# Altium schematic symbol library MOTELIGHT_ED03R1_20200205.SCHLIB: 103 symbols (part 2 of 2)
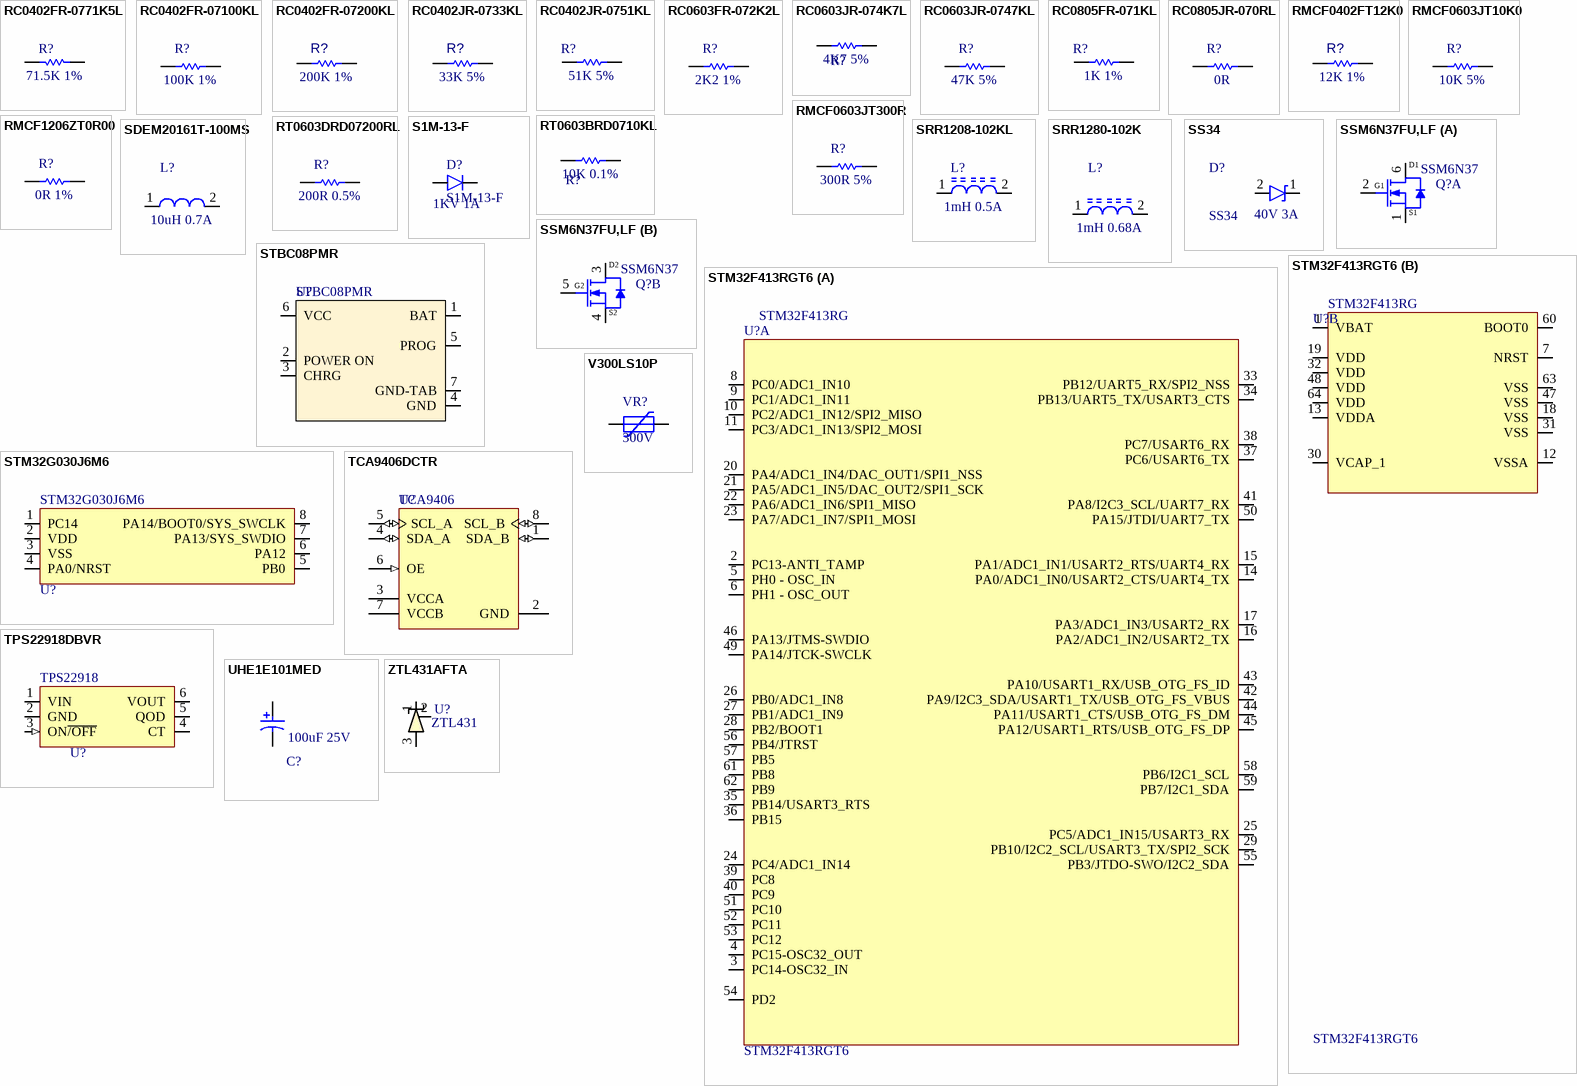
[diagram p3: symbols RC0402FR-0771K5L to ZTL431AFTA]

## RMCF0603JT10K0
designator R?  VALOR: 10K 5%  (hidden comment: RMCF0603JT10K0)
RES SMD 10K OHM 5% 1/16W 0603; Manufacturer: Stackpole Electronics; ORIGEM: MoteLight_Ed02; Supplier 1: Digi-Key; Manufacturer Part Number: RMCF0603JT10K0; Pricing 1: 1=0.1, 10=0.016, 100=0.0064, 1000=0.00289, 2500=0.0025 (USD); Case/Package: 0603; ComponentLink1URL: https://www.verical.com/server-webapp/html/getDatasheet?partID=364254; ComponentLink1Description: https://www.verical.com/server-webapp/html/getDatasheet?partID=364254; Supplier Part Number 1: RMCF0603JT10K0DKR-ND
footprint RES 0603 (RESISTOR 0603)
pins: 1, 2

## RMCF0603JT300R
designator R?  VALOR: 300R 5%  (hidden comment: RMCF0603JT300R)
RES SMD 300 OHM 5% 1/16W 0603; Manufacturer: Stackpole Electronics; ORIGEM: MoteLight_Ed03; Supplier 1: Future Electronics; Manufacturer Part Number: RMCF0603JT300R; Case/Package: 0603; Supplier Part Number 1: 3380441
footprint RES 0603 (RESISTOR 0603)
pins: 1, 2

## RMCF1206ZT0R00
designator R?  VALOR: 0R 1%  (hidden comment: RMCF1206ZT0R00)  (no BOM)
RES SMD 0 OHM 1% 1/16W 1206; Manufacturer: Stackpole Electronics; ORIGEM: MoteLight_Ed03; Supplier 1: Digi-Key; Case/Package: 1206; Manufacturer Part Number: RMCF1206ZT0R00
footprint RES 1206 (Footprint not found)
pins: 1, 2

## RT0603BRD0710KL
designator R?  VALOR: 10K 0.1%  (hidden comment: RT0603BRD0710KL)
RES SMD 10K OHM 0.1% 1/10W 0603; Manufacturer: Yageo; ORIGEM: MoteLight_Ed03; Supplier 1: Digi-Key; Manufacturer Part Number: RT0603BRD0710KL; Pricing 1: 1=0,38000, 10=0,32000, 100=0,12500, 1000=0,05233, 2500=0,04797 (USD); Case/Package: 0603; ComponentLink1Description: https://datasheet.ciiva.com/29721/pyu-rt-1-to-0-05-rohs-l-4-29721177.pdf?src-supplier=Digi-Key; Supplier Part Number 1: YAG1236CT-ND
footprint RES 0603
pins: 1, 2

## RT0603DRD07200RL
designator R?  VALOR: 200R 0.5%  (hidden comment: RT0603DRD07200RL)
RES SMD 200R 0.5% 1/10W  0603; Manufacturer: Yageo; ORIGEM: MoteLight_Ed02; Supplier 1: Digi-Key; Supplier Part Number 1: 311-200DCT-ND; Case/Package: 0603; Manufacturer Part Number: RT0603DRD07200RL; Pricing 1: 1=0,20000, 10=0,16800, 100=0,06570, 1000=0,02750, 2500=0,02521 (USD); ComponentLink1URL: http://www.yageo.com/documents/recent/PYu-RT_1-to-0.01_RoHS_L_9.pdf?src-supplier=Digi-Key; ComponentLink1Description: http://www.yageo.com/documents/recent/PYu-RT_1-to-0.01_RoHS_L_9.pdf?src-supplier=Digi-Key
footprint RES 0603 (RESISTOR 0603)
pins: 1, 2

## S1M-13-F
designator D?  VALOR: 1KV 1A
DIO GEN PURP 1KV 1A SMA; Manufacturer: Diodes; ORIGEM: MoteLight_Ed03; Supplier 1: Digi-Key; Manufacturer Part Number: S1M-13-F; Pricing 1: 1=0.24, 10=0.199, 100=0.1057, 500=0.06952, 1000=0.04728 (USD); Case/Package: SMA; ComponentLink1Description: http://www.jameco.com/Jameco/Products/ProdDS/1541642.pdf?src-supplier=Jameco; Supplier Part Number 1: S1M-FDICT-ND
footprint DIO DO-214AC (Footprint not found)
pins: 1 A, 2 K

## SDEM20161T-100MS
designator L?  VALOR: 10uH 0.7A  (hidden comment: SDEM20161T-100MS)
IND FIXED 10UH 700MA 1.01OHM SMD; Manufacturer: Cyntec; ORIGEM: MoteLight_Ed03; Supplier 1: Digi-Key; Manufacturer Part Number: SDEM20161T-100MS; Pricing 1: 1=0,26000, 10=0,23300, 100=0,16050, 500=0,13714, 1000=0,10505 (USD); Supplier Part Number 1: 2037-SDEM20161T-100MSCT-ND; Case/Package: SMD
footprint IND SDEM20161T (SDEM Series)
pins: 1, 2

## SRR1208-102KL
designator L?  VALOR: 1mH 0.5A  (hidden comment: SRR1208-102KL)
IND FIXED 1000uH 10% 0.5A SMT; Manufacturer: Bourns; ORIGEM: MoteLight_Ed03; Supplier 1: Digi-Key; Manufacturer Part Number: SRR1208-102KL; Pricing 1: 1=1,13000, 10=1,04700, 100=0,75670 (USD); Case/Package: SMD; ComponentLink1Description: https://datasheet.ciiva.com/22717/1483756-22717957.pdf?src-supplier=Element14; Supplier Part Number 1: SRR1208-102KLCT-ND
footprint IND SRR1280
pins: 1, 2

## SRR1280-102K
designator L?  VALOR: 1mH 0.68A  (hidden comment: SRR1280-102K)
IND FIXED 1MH 680MA 1.7 OHM SMD; Manufacturer: Bourns; ORIGEM: MoteLight_Ed03; Supplier 1: Digi-Key; Manufacturer Part Number: SRR1280-102K; Pricing 1: 1=1,25000, 10=1,15900, 100=0,83780 (USD); Case/Package: Nonstandard; ComponentLink1Description: https://datasheet.ciiva.com/48685/srr1280-48685541.pdf?src-supplier=Avnet; Supplier Part Number 1: SRR1280-102KCT-ND
footprint IND SRR1280
pins: 1, 2

## SS34
designator D?  VALOR: 40V 3A
DIO SCHOTTKY 40 V 3 A DO-214AB; Manufacturer: Taiwan Semiconductor; ORIGEM: MoteLight_Ed02; Supplier 1: Mouser; Manufacturer Part Number: SS34; Case/Package: SMC; ComponentLink1URL: https://datasheet.ciiva.com/16236/ss32-f11-16236749.pdf?src-supplier=Onlinecomponents.com; ComponentLink1Description: https://datasheet.ciiva.com/16236/ss32-f11-16236749.pdf?src-supplier=Onlinecomponents.com; Supplier Part Number 1: 821-SS34
footprint DIO DO214 AB (SMC)
pins: 1 K, 2 A

## SSM6N37FU,LF
designator Q?, comment VALOR: SSM6N37  (hidden comment: SSM6N37FU,LFA)
TRANS MOSFET 2 N-CHANNEL 20V 250MA SSM6N37; Manufacturer: Toshiba; ORIGEM: MoteLight_Ed03; Supplier 1: Digi-Key; Pricing 1: 1=0,38000, 10=0,28000, 100=0,15860, 500=0,10506, 1000=0,08055 (USD); ComponentLink1Description: https://toshiba.semicon-storage.com/info/docget.jsp?did=6227&prodName=SSM6N37FU&src-supplier=Digi-Key; Supplier Part Number 1: SSM6N37FULFCT-ND; Case/Package: SOT-363-6; Manufacturer Part Number: SSM6N37FU,LF
footprint IC SOT-363
part A pins: 1 S1, 2 G1, 6 D1
part B pins: 3 D1, 4 S1, 5 G1
part B text: D2; G2; S2

## STBC08PMR
designator U?
IC BATT CHRGR LI-ION 800MA DFN6; Manufacturer: STMicroelectronics; ORIGEM: MoteLight_Ed03; Supplier 1: Digi-Key; Pricing 1: 1=1,24000, 10=1,11200, 25=1,05560, 100=0,81050, 250=0,71628, 500=0,67856, 1000=0,52777 (USD); Case/Package: DFN; ComponentLink1Description: https://datasheet.ciiva.com/4873/cd00132950-113489-4873792.pdf?src-supplier=Mouser; Supplier Part Number 1: 497-5808-1-ND; Manufacturer Part Number: STBC08PMR; VALOR: STBC08PMR
footprint IC DFN6
pins: 1 BAT (power), 2 POWER ON, 3 CHRG (oc), 4 GND, 5 PROG, 6 VCC (power), 7 GND-TAB

## STM32F413RGT6
designator U?  VALOR: STM32F413RG
MCU STM32F413RGT6 32BIT 100MHZ 320KB/1MB 64LQFP; Manufacturer: STMicroelectronics; ORIGEM: MoteLight_Ed02; Supplier 1: Digi-Key; Manufacturer Part Number: STM32F413RGT6; Pricing 1: 1=8,31000, 10=7,51000, 25=7,16080, 100=6,21750, 250=5,93812, 500=5,41416, 1000=4,71555 (USD); ComponentLink1URL: http://www.farnell.com/datasheets/2581760.pdf?src-supplier=Farnell; ComponentLink1Description: http://www.farnell.com/datasheets/2581760.pdf?src-supplier=Farnell; Case/Package: LQFP64
footprint IC LQFP64
part A pins: 2 PC13-ANTI_TAMP (io), 3 PC14-OSC32_IN (io), 4 PC15-OSC32_OUT (io), 5 PH0 - OSC_IN (io), 6 PH1 - OSC_OUT (io), 8 PC0/ADC1_IN10 (io), 9 PC1/ADC1_IN11 (io), 10 PC2/ADC1_IN12/SPI2_MISO (io), 11 PC3/ADC1_IN13/SPI2_MOSI (io), 14 PA0/ADC1_IN0/USART2_CTS/UART4_TX (io), 15 PA1/ADC1_IN1/USART2_RTS/UART4_RX (io), 16 PA2/ADC1_IN2/USART2_TX (io), 17 PA3/ADC1_IN3/USART2_RX (io), 20 PA4/ADC1_IN4/DAC_OUT1/SPI1_NSS (io), 21 PA5/ADC1_IN5/DAC_OUT2/SPI1_SCK (io), 22 PA6/ADC1_IN6/SPI1_MISO (io), 23 PA7/ADC1_IN7/SPI1_MOSI (io), 24 PC4/ADC1_IN14 (io), 25 PC5/ADC1_IN15/USART3_RX (io), 26 PB0/ADC1_IN8 (io), 27 PB1/ADC1_IN9 (io), 28 PB2/BOOT1 (io), 29 PB10/I2C2_SCL/USART3_TX/SPI2_SCK (io), 33 PB12/UART5_RX/SPI2_NSS (io), 34 PB13/UART5_TX/USART3_CTS (io), 35 PB14/USART3_RTS (io), 36 PB15 (io), 37 PC6/USART6_TX (io), 38 PC7/USART6_RX (io), 39 PC8 (io), 40 PC9 (io), 41 PA8/I2C3_SCL/UART7_RX (io), 42 PA9/I2C3_SDA/USART1_TX/USB_OTG_FS_VBUS (io), 43 PA10/USART1_RX/USB_OTG_FS_ID (io), 44 PA11/USART1_CTS/USB_OTG_FS_DM (io), 45 PA12/USART1_RTS/USB_OTG_FS_DP (io), 46 PA13/JTMS-SWDIO (io), 49 PA14/JTCK-SWCLK (io), 50 PA15/JTDI/UART7_TX (io), 51 PC10 (io), 52 PC11 (io), 53 PC12 (io), 54 PD2 (io), 55 PB3/JTDO-SWO/I2C2_SDA (io), 56 PB4/JTRST (io), 57 PB5 (io), 58 PB6/I2C1_SCL (io), 59 PB7/I2C1_SDA (io), 61 PB8 (io), 62 PB9 (io)
part B pins: 1 VBAT (power), 7 NRST (power), 12 VSSA (power), 13 VDDA (power), 18 VSS (power), 19 VDD (power), 30 VCAP_1 (power), 31 VSS (power), 32 VDD (power), 47 VSS (power), 48 VDD (power), 60 BOOT0 (power), 63 VSS (power), 64 VDD (power)

## STM32G030J6M6
designator U?
MCU STM32G030J6M6 32-Bit 64MHz 32KB/32K x 8; Manufacturer: STMicroelectronics; ORIGEM: MoteLight_Ed03; Supplier 1: Digi-Key; Manufacturer Part Number: STM32G030J6M6; Pricing 1: 1=0,94000, 10=0,84300, 25=0,79960, 100=0,65690, 250=0,61404, 500=0,54264, 1000=0,42840, 2500=0,39984, 5000=0,37985 (USD); Supplier Part Number 1: 497-STM32G030J6M6-ND; Case/Package: SO8N; VALOR: STM32G030J6M6
footprint IC SO8N (SOIC 8 PINS)
pins: 1 PC14 (io), 2 VDD (power), 3 VSS (power), 4 PA0/NRST, 5 PB0 (io), 6 PA12 (io), 7 PA13/SYS_SWDIO, 8 PA14/BOOT0/SYS_SWCLK

## TCA9406DCTR
designator U?  VALOR: TCA9406  (hidden comment: TCA9406DCTR)
IC I2C Transceiver TCA9406; Manufacturer: Texas Instruments; ORIGEM: MoteLight_Ed02; Supplier 1: Digi-Key; Pricing 1: 1 = 0,91000, 10 = 0,81400, 100 = 0,63490, 500 = 0,52448, 1000 = 0,41406 (USD); Case/Package: SSOP; ComponentLink1URL: https://datasheet.ciiva.com/1503/1634018-1503920.pdf?src-supplier=Element14; ComponentLink1Description: https://datasheet.ciiva.com/1503/1634018-1503920.pdf?src-supplier=Element14; Supplier Part Number 1: 296-28108-1-ND; Manufacturer Part Number: TCA9406DCTR
footprint IC SSOP-8P
pins: 1 SDA_B (io) "Input/output B. Referenced to VCCB. Allow I2C_SDA configured to 2.5V/3.3V/5V", 2 GND (power) "Ground", 3 VCCA (power) "A-port supply voltage. 1.65  VCCA =<3.6 V and VCCA =< VCCB. Configuration for SDA_A, SCL_A, and OE", 4 SDA_A (io) "Input/output A. Referenced to VCCA. Allows I2C_SDA configured to 1.8V, 2.5V, 3.3V", 5 SCL_A (io) "Input/output A. Referenced to VCCA. Allows I2C_SCL configured to 1.8V, 2.5V, 3.3V", 6 OE (in) "Output enable (active High). Pull OE low to place all outputs in 3-state mode.Referenced to VCCA. Pull OE to LOW to place all outputs in 3-state mode with 3.6V input tolerance.", 7 VCCB (power) "B-port supply voltage. 2.3 V =< VCCB =< 5.5 V for SDA_B, SCL_B", 8 SCL_B (io) "Input/output B. Referenced to VCCB. Allow I2C_SCL configured to 2.5V/3.3V/5V"

## TPS22918DBVR
designator U?  VALOR: TPS22918  (hidden comment: TPS22918DBVR)
IC LOAD SWITCH 2A 5.5V SOT-23-6 TPS22918; Manufacturer: Texas Instruments; ORIGEM: MoteLight_Ed03; Supplier 1: Digi-Key; Manufacturer Part Number: TPS22918DBVR; Pricing 1: 1=0,55000, 10=0,47500, 25=0,44360, 100=0,32940, 250=0,27872, 500=0,26604, 1000=0,19637 (USD); Case/Package: SOT-23-6; ComponentLink1Description: http://www.ti.com/lit/ds/symlink/tps22918.pdf?src-supplier=Digi-Key; Supplier Part Number 1: 296-46278-1-ND
footprint IC SOT-23-6
pins: 1 VIN (power), 2 GND (power), 3 ON~{/OFF} (in), 4 CT, 5 QOD, 6 VOUT (power)

## UHE1E101MED
designator C?  VALOR: 100uF 25V  (hidden comment: UHE1E101MED)
CAP ALUM ELE 100uF 20% 25V RADIAL; Manufacturer: Nichicon; ORIGEM: MoteLight_Ed03; Supplier 1: Digi-Key; Manufacturer Part Number: UHE1E101MED; Pricing 1: 1=0.32, 10=0.218, 100=0.1234, 500=0.08712, 1000=0.07623, 2500=0.0726, 5000=0.06716 (USD); Case/Package: Radial; ComponentLink1Description: http://nichicon-us.com/english/products/pdfs/e-mi_tape.pdf?src-supplier=Digi-Key; Supplier 2: Mouser; Pricing 2: 1=0.27, 10=0.182, 50=0.149, 100=0.109, 1000=0.069, 10000=0.062 (USD); Supplier Part Number 1: 493-1548-ND; Supplier Part Number 2: 647-UHE1E101MED
footprint CAP_POL_6,3dx2,5x11h (CAP ALUM POL D=6,3mm P = 2,5mm h = 11mm)
pins: 1, 2

## V300LS10P
designator VR?  VALOR: 300V  (hidden comment: V300LS10P)
VAR MOV 300VAC/405VDC 2.5KA775V Radial; Manufacturer: Littelfuse; ORIGEM: MoteLight_Ed03; Supplier 1: Digi-Key; Pricing 1: 1=0,51000, 10=0,35800, 25=0,29400, 100=0,23520, 250=0,17108 (USD); Case/Package: Radial; ComponentLink1Description: https://datasheet.ciiva.com/367/littelfuse-mov-la-367393.pdf?src-supplier=Digi-Key; Supplier Part Number 1: F12142CT-ND; Manufacturer Part Number: V300LS10P
footprint VAR MOV 10mm (VARISTOR DISCO 10mm)
pins: 2 K, VR? A

## ZTL431AFTA
designator U?  VALOR: ZTL431  (hidden comment: ZTL431AFTA)
IC VREF SHUNT ADJ SOT23 ZTL431AFTA; Manufacturer: Diodes Zetex; ORIGEM: MoteLight_Ed03; Supplier 1: Digi-Key; Pricing 1: 1=0,42000, 10=0,31700, 100=0,15600, 500=0,13520, 1000=0,10400 (USD); Case/Package: SOT-23; ComponentLink1Description: https://datasheet.ciiva.com/2005/ztl431-432-2005376.pdf?src-supplier=Digi-Key; Supplier Part Number 1: ZTL431AFCT-ND; Manufacturer Part Number: ZTL431AFTA
footprint IC SOT-23-3
pins: 1 K, 2 REF, 3 A